# Altium schematic symbol library PMIC-USB.SchLib: 3 symbols
Pins are listed as number, name and electrical type; pins without a type are passive.

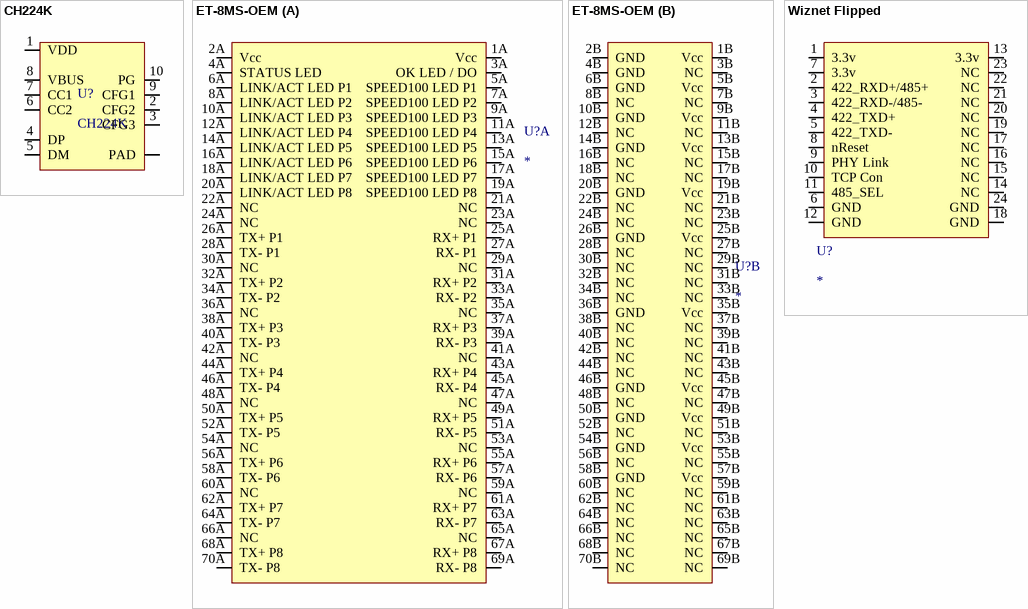
[diagram p0: symbols CH224K to Wiznet Flipped]

## CH224K
designator U?
IC USB-PD Controller / ESSOP-10; Grade: None; Supplier 1: LCSC; Supplier Part Number 1: C970725; Package / Case: ESSOP-10; Mounted: Yes
footprint SOP10-PAD
pins: 1 VDD, 2 CFG2, 3 CFG3, 4 DP, 5 DM, 6 CC2, 7 CC1, 8 VBUS, 9 CFG1, 10 PG, PAD

## ET-8MS-OEM
designator U?
footprint ET-8MS-OEM (Switch Ethernet pour boite de jct ichtyos)
part A pins: 1A Vcc, 2A Vcc, 3A OK LED / DO, 4A STATUS LED, 5A  SPEED100 LED P1, 6A LINK/ACT LED P1, 7A  SPEED100 LED P2, 8A LINK/ACT LED P2, 9A  SPEED100 LED P3, 10A LINK/ACT LED P3, 11A  SPEED100 LED P4, 12A LINK/ACT LED P4, 13A  SPEED100 LED P5, 14A LINK/ACT LED P5, 15A  SPEED100 LED P6, 16A LINK/ACT LED P6, 17A  SPEED100 LED P7, 18A LINK/ACT LED P7, 19A  SPEED100 LED P8, 20A LINK/ACT LED P8, 21A NC, 22A NC, 23A NC, 24A NC, 25A RX+ P1, 26A TX+ P1, 27A RX- P1, 28A TX- P1, 29A NC, 30A NC, 31A RX+ P2, 32A TX+ P2, 33A RX- P2, 34A TX- P2, 35A NC, 36A NC, 37A RX+ P3, 38A TX+ P3, 39A RX- P3, 40A TX- P3, 41A NC, 42A NC, 43A RX+ P4, 44A TX+ P4, 45A RX- P4, 46A TX- P4, 47A NC, 48A NC, 49A RX+ P5, 50A TX+ P5, 51A RX- P5, 52A TX- P5, 53A NC, 54A NC, 55A RX+ P6, 56A TX+ P6, 57A RX- P6, 58A TX- P6, 59A NC, 60A NC, 61A RX+ P7, 62A TX+ P7, 63A RX- P7, 64A TX- P7, 65A NC, 66A NC, 67A RX+ P8, 68A TX+ P8, 69A RX- P8, 70A TX- P8
part B pins: 1B Vcc, 2B GND, 3B NC, 4B GND, 5B Vcc, 6B GND, 7B NC, 8B NC, 9B Vcc, 10B GND, 11B NC, 12B NC, 13B Vcc, 14B GND, 15B NC, 16B NC, 17B NC, 18B NC, 19B Vcc, 20B GND, 21B NC, 22B NC, 23B NC, 24B NC, 25B Vcc, 26B GND, 27B NC, 28B NC, 29B NC, 30B NC, 31B NC, 32B NC, 33B NC, 34B NC, 35B Vcc, 36B GND, 37B NC, 38B NC, 39B NC, 40B NC, 41B NC, 42B NC, 43B NC, 44B NC, 45B Vcc, 46B GND, 47B NC, 48B NC, 49B Vcc, 50B GND, 51B NC, 52B NC, 53B Vcc, 54B GND, 55B NC, 56B NC, 57B Vcc, 58B GND, 59B NC, 60B NC, 61B NC, 62B NC, 63B NC, 64B NC, 65B NC, 66B NC, 67B NC, 68B NC, 69B NC, 70B NC

## Wiznet Flipped
designator U?
Wiznet pour PCB placé à l'envers avec header female; Supplier Part Number 1: S7109-ND
footprint Wiznet (Flipped with Ethernet connector)
pins: 1 3.3v, 2 422_RXD+/485+, 3 422_RXD-/485-, 4 422_TXD+, 5 422_TXD-, 6 GND, 7 3.3v, 8 nReset, 9 PHY Link, 10 TCP Con, 11 485_SEL, 12 GND, 13 3.3v, 14 NC, 15 NC, 16 NC, 17 NC, 18 GND, 19 NC, 20 NC, 21 NC, 22 NC, 23 NC, 24 GND